# EAGLE library part 61002418221 (library Board_to_Board_Connectors_rev15d)
WR-PHD 2.54mm SMT Pin Header, 24 Pins =>Code : Con_BTB_PHD_2.54_1_SMT_61002418221 <http://katalog.we-online.de/media/images/eican/Con_BTB_PHD_2.54_1_SMT_6100xx18221_pf2.jpg> Details see: http://katalog.we-online.de/en/em/610_0xx_182_21 Created 2014-05-29, Karrer Zheng 2014 (C) Würth Elektronik
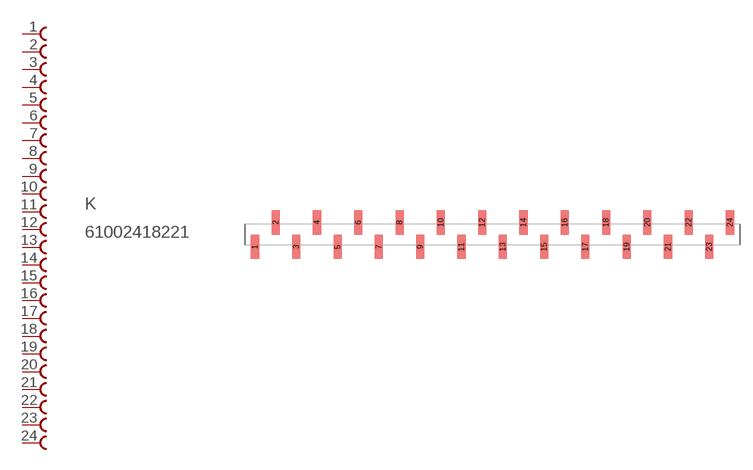
[diagram p65: symbol with the pads of 61002418221; footprint 61002418221]

Designator prefix K

## 61002418221  [61002418221]
1  1  pas
2  2  pas
3  3  pas
4  4  pas
5  5  pas
6  6  pas
7  7  pas
8  8  pas
9  9  pas
10  10  pas
11  11  pas
12  12  pas
13  13  pas
14  14  pas
15  15  pas
16  16  pas
17  17  pas
18  18  pas
19  19  pas
20  20  pas
21  21  pas
22  22  pas
23  23  pas
24  24  pas

## Footprint 61002418221 (pad centres in mm)
WR-PHD 2.54mm SMT Pin Header, 24 Pins
smd 1 x 3: 1 -25.4,-1.5; 2 -22.86,1.5; 3 -20.32,-1.5; 4 -17.78,1.5; 5 -15.24,-1.5; 6 -12.7,1.5; 7 -10.16,-1.5; 8 -7.62,1.5; 9 -5.08,-1.5; 10 -2.54,1.5; 11 0,-1.5; 12 2.54,1.5; 13 5.08,-1.5; 14 7.62,1.5; 15 10.16,-1.5; 16 12.7,1.5; 17 15.24,-1.5; 18 17.78,1.5; 19 20.32,-1.5; 20 22.86,1.5; 21 25.4,-1.5; 22 27.94,1.5; 23 30.48,-1.5; 24 33.02,1.5